# EAGLE library part RV-3028 (library crystal_clock)
RV-3028 - RTC with I2C Bus Specifications: Pin count: 8 Pin pitch: .9mm Area: [3.2mm x 2.0mm] Datasheet referenced for footprint <https://www.microcrystal.com/fileadmin/Media/Products/RTC/App.Manual/RV-3028-C7_App-Manual.pdf>
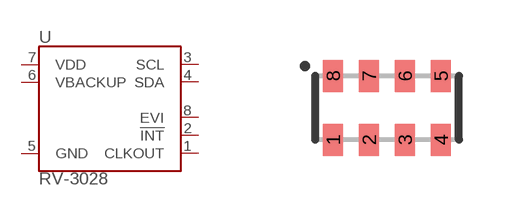
[diagram p4: symbol with the pads of RV-3028; footprint RV-3028]

Designator prefix U

## RV-3028 (PROD_ID: IC-14378)  [RV-3028]
1  CLKOUT
2  !INT
3  SCL
4  SDA
5  GND
6  VBACKUP
7  VDD
8  EVI

## Footprint RV-3028 (pad centres in mm)
Footprint for the RV-3028 I2C RTC
smd 0.5 x 0.8: 1 -1.35,-0.8; 2 -0.45,-0.8; 3 0.45,-0.8; 4 1.35,-0.8; 5 1.35,0.8; 6 0.45,0.8; 7 -0.45,0.8; 8 -1.35,0.8